# Altium footprint library Con_PcbLib.PcbLib: 98 footprints (part 2 of 7)
Each footprint in its own frame and in the unit in brackets; x right, y up, seen from the top. Pads: shape width x height; smd on the part's side, far side on the other; paste and mask are expansions set on the pad; w line width, h text height; cw(c..) or ccw(c..) is an arc to the next point about the centre after c.
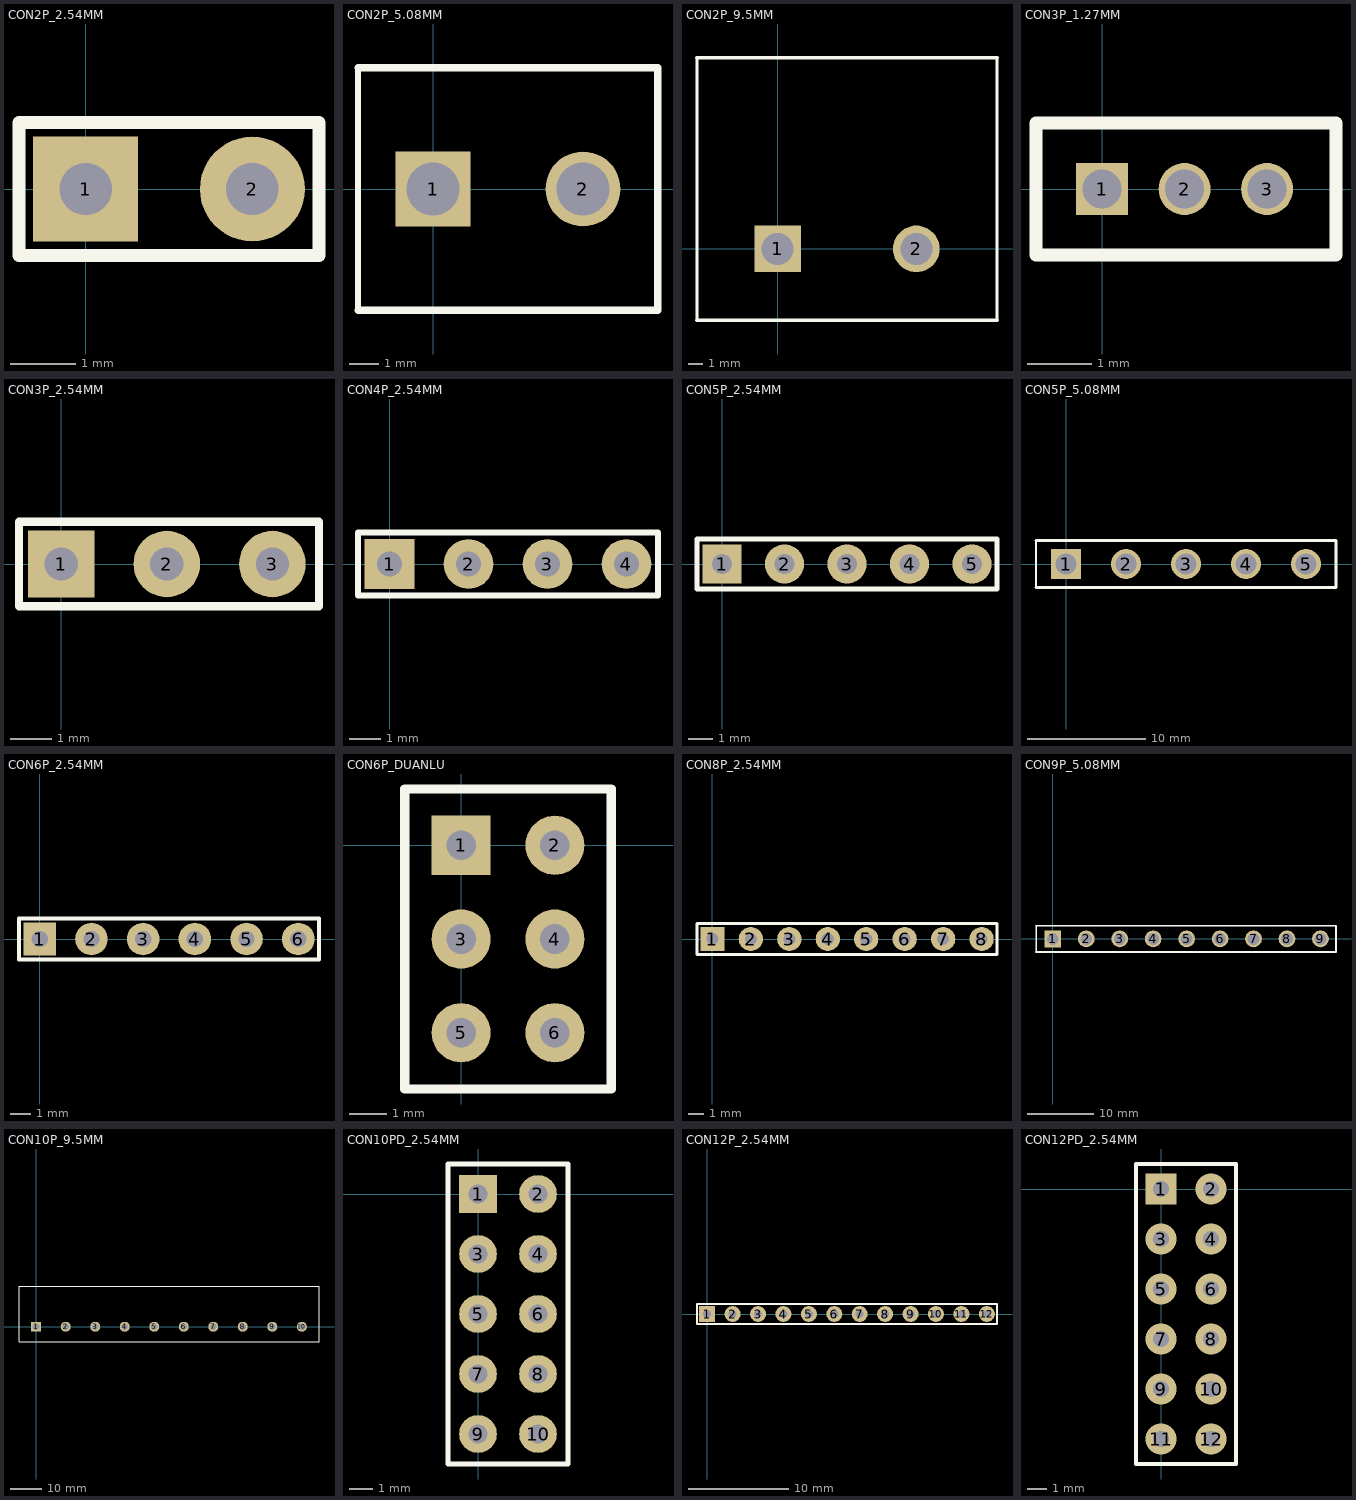
[diagram p1: the footprints below, top view; thin cyan lines are the x and y axes]

## CON2P_2.54MM [mm]
pads (2):
  rect 1.6x1.6 hole 0.8: 1(0,0)
  round 1.6 hole 0.8: 2(2.54,0)
Top Overlay:
  lines w0.2: -1.016,-1.016 -1.016,1.016 3.556,1.016 3.556,-1.016 -1.016,-1.016

## CON2P_5.08MM [mm]
pads (2):
  rect 2.54x2.54 hole 1.78: 1(0,0)
  round 2.54 hole 1.78: 2(5.08,0)
Top Overlay:
  lines w0.2: -2.54,-4.1 -2.54,4.1
  lines w0.254: -2.54,-4.1 7.62,-4.1 7.62,3.52 7.62,4.1 -2.54,4.1

## CON2P_9.5MM [mm] "HB-9500"
pads (2):
  rect 3.2x3.2 hole 2.2: 1(0,0)
  round 3.2 hole 2.2: 2(9.5,0)
Top Overlay:
  lines w0.2: -5.525,-4.9 -5.525,13.1 ; 15.025,-4.9 15.025,13.1
  lines w0.254: -5.525,-4.9 15.025,-4.9 ; -5.525,13.1 15.025,13.1

## CON3P_1.27MM [mm]
pads (3):
  rect 0.8x0.8 hole 0.6: 1(0,0)
  round 0.8 hole 0.6: 2(1.27,0) 3(2.54,0)
Top Overlay:
  lines w0.2: -1.016,-1.016 3.6,-1.016 3.6,1.016 -1.016,1.016 -1.016,-1.016

## CON3P_2.54MM [mm]
pads (3):
  rect 1.6x1.6 hole 0.8: 1(0,0)
  round 1.6 hole 0.8: 2(2.54,0) 3(5.08,0)
Top Overlay:
  lines w0.2: -1.016,-1.016 -1.016,1.016 6.2,1.016 6.2,-1.016 -1.016,-1.016

## CON4P_2.54MM [mm]
pads (4):
  rect 1.6x1.6 hole 0.8: 1(0,0)
  round 1.6 hole 0.8: 2(2.54,0) 3(5.08,0) 4(7.62,0)
Top Overlay:
  lines w0.2: -1.016,-1.016 -1.016,1.016 3.556,1.016 8.128,1.016 8.636,1.016 8.636,-1.016 8.128,-1.016 3.556,-1.016 -1.016,-1.016

## CON5P_2.54MM [mm]
pads (5):
  rect 1.6x1.6 hole 0.8: 1(0,0)
  round 1.6 hole 0.8: 2(2.54,0) 3(5.08,0) 4(7.62,0) 5(10.16,0)
Top Overlay:
  lines w0.2: -1.016,-1.016 11.176,-1.016 11.176,1.016 -1.016,1.016 -1.016,-1.016

## CON5P_5.08MM [mm]
pads (5):
  rect 2.54x2.54 hole 1.78: 1(0,0)
  round 2.54 hole 1.78: 2(5.08,0) 3(10.16,0) 4(15.24,0) 5(20.32,0)
Top Overlay:
  lines w0.2: -2.54,-2 -2.54,2
  lines w0.254: -2.54,-2 22.86,-2 22.86,2 -2.54,2

## CON6P_2.54MM [mm]
pads (6):
  rect 1.6x1.6 hole 0.8: 1(0,0)
  round 1.6 hole 0.8: 2(2.54,0) 3(5.08,0) 4(7.62,0) 5(10.16,0) 6(12.7,0)
Top Overlay:
  lines w0.2: -1.016,-1.016 -1.016,1.016 13.716,1.016 13.716,-1.016 -1.016,-1.016

## CON6P_DUANLU [mm]
pads (6):
  rect 1.6x1.6 hole 0.8: 1(0,0)
  round 1.6 hole 0.8: 2(2.54,0) 3(0,-2.54) 4(2.54,-2.54) 5(0,-5.08) 6(2.54,-5.08)
Top Overlay:
  lines w0.254: -1.524,-6.604 -1.524,1.016 -1.524,1.524 4.064,1.524 4.064,-6.604 -1.524,-6.604

## CON8P_2.54MM [mm]
pads (8):
  rect 1.6x1.6 hole 0.8: 1(0,0)
  round 1.6 hole 0.8: 2(2.54,0) 3(5.08,0) 4(7.62,0) 5(10.16,0) 6(12.7,0) 7(15.24,0) 8(17.78,0)
Top Overlay:
  lines w0.2: -1.016,-1.016 -1.016,1.016 18.796,1.016 18.796,-1.016 -1.016,-1.016

## CON9P_5.08MM [mm]
pads (9):
  rect 2.54x2.54 hole 1.78: 1(0,0)
  round 2.54 hole 1.78: 2(5.08,0) 3(10.16,0) 4(15.24,0) 5(20.32,0) 6(25.4,0) 7(30.48,0) 8(35.56,0) 9(40.64,0)
Top Overlay:
  lines w0.2: -2.54,-2 -2.54,2
  lines w0.254: -2.54,-2 43,-2 ; -2.54,2 43,2 ; 43,-2.032 43,1.968

## CON10P_9.5MM [mm] "HB-9500"
pads (10):
  rect 3.2x3.2 hole 2.2: 1(0,0)
  round 3.2 hole 2.2: 2(9.5,0) 3(19,0) 4(28.5,0) 5(38,0) 6(47.5,0) 7(57,0) 8(66.5,0) 9(76,0) 10(85.5,0)
Top Overlay:
  lines w0.2: -5.525,-4.9 -5.525,13.1 ; 91.025,-4.9 91.025,13.1
  lines w0.254: -5.525,-4.9 91.025,-4.9 ; -5.525,13.1 91.025,13.1

## CON10PD_2.54MM [mm]
pads (10):
  rect 1.6x1.6 hole 0.8: 1(0,0)
  round 1.6 hole 0.8: 2(2.54,0) 3(0,-2.54) 4(2.54,-2.54) 5(0,-5.08) 6(2.54,-5.08) 7(0,-7.62) 8(2.54,-7.62) 9(0,-10.16) 10(2.54,-10.16)
Top Overlay:
  lines w0.2: -1.27,-11.43 -1.27,1.27 3.81,1.27 3.81,-11.43 -1.27,-11.43

## CON12P_2.54MM [mm]
pads (12):
  rect 1.6x1.6 hole 0.8: 1(0,0)
  round 1.6 hole 0.8: 2(2.54,0) 3(5.08,0) 4(7.62,0) 5(10.16,0) 6(12.7,0) 7(15.24,0) 8(17.78,0) 9(20.32,0) 10(22.86,0) 11(25.4,0) 12(27.94,0)
Top Overlay:
  lines w0.2: -1.016,-1.016 -1.016,1.016 28.956,1.016 28.956,-1.016 -1.016,-1.016

## CON12PD_2.54MM [mm]
height 5
pads (12):
  rect 1.6x1.6 hole 0.8: 1(0,0)
  round 1.6 hole 0.8: 2(2.54,0) 3(0,-2.54) 4(2.54,-2.54) 5(0,-5.08) 6(2.54,-5.08) 7(0,-7.62) 8(2.54,-7.62) 9(0,-10.16) 10(2.54,-10.16) 11(0,-12.7) 12(2.54,-12.7)
Top Overlay:
  lines w0.2: -1.27,-13.97 -1.27,1.27 3.81,1.27 3.81,-13.97 ; -1.27,-13.97 3.81,-13.97 ; -1.27,-13.97 3.81,-13.97